# EAGLE library part TEMPLATE_PHOTON (library voltera_community_lib)
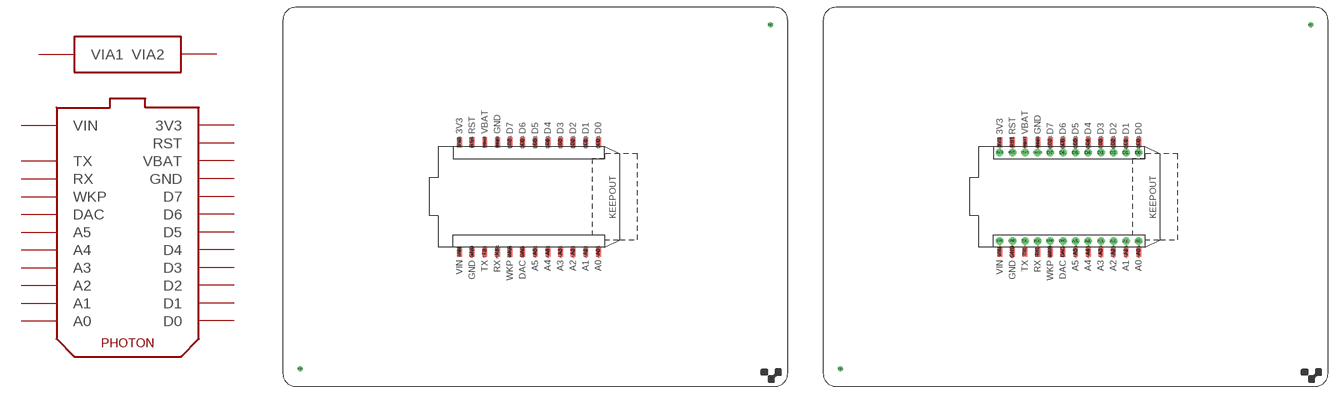
[diagram p3: symbol with the pads of PHOTON; footprints PHOTON, PHOTON_RAW]

Designator prefix -

## TEMPLATE_PHOTON_SHIELD  [PHOTON]
3V3  3V3
3V3@1  3V3
A0  A0
A0@1  A0
A1  A1
A1@1  A1
A2  A2
A2@1  A2
A3  A3
A3@1  A3
A4  A4
A4@1  A4
A5  A5
A5@1  A5
D0  D0
D0@1  D0
D1  D1
D1@1  D1
D2  D2
D2@1  D2
D3  D3
D3@1  D3
D4  D4
D4@1  D4
D5  D5
D5@1  D5
D6  D6
D6@1  D6
D7  D7
D7@1  D7
DAC  DAC
DAC@1  DAC
GND  GND
GND@1  GND
GND@2  GND
GND@3  GND
P$1  VIA1
P$2  VIA2
RST  RST
RST@1  RST
RX  RX
RX@1  RX
TX  TX
TX@1  TX
VBAT  VBAT
VBAT@1  VBAT
VIN  VIN
VIN@1  VIN
WKP  WKP
WKP@1  WKP

## TEMPLATE_PHOTON_RAW  [PHOTON_RAW]
3V3  3V3
3V3.  3V3
3V31  3V3
A0  A0
A0.  A0
A0@1  A0
A1  A1
A1.  A1
A1@1  A1
A2  A2
A2.  A2
A2@1  A2
A3  A3
A3.  A3
A3@1  A3
A4  A4
A4.  A4
A4@1  A4
A5  A5
A5.  A5
A5@1  A5
D0  D0
D0.  D0
D0@1  D0
D1  D1
D1.  D1
D1@1  D1
D2  D2
D2.  D2
D2@1  D2
D3  D3
D3.  D3
D3@1  D3
D4  D4
D4.  D4
D4@1  D4
D5  D5
D5.  D5
D5@1  D5
D6  D6
D6.  D6
D6@1  D6
D7  D7
D7.  D7
D7@1  D7
DAC  DAC
DAC1  DAC
DAC.  DAC
GND  GND
GND1  GND
GND.  GND
GND.@1  GND
GND@1  GND
GND@2  GND
P$1  VIA1
P$2  VIA2
RST  RST
RST1  RST
RST.  RST
RX  RX
RX1  RX
RX.  RX
TX  TX
TX1  TX
TX.  TX
VBAT  VBAT
VBAT1  VBAT
VBAT.  VBAT
VIN  VIN
VIN1  VIN
VIN.  VIN
WKP  WKP
WKP1  WKP
WKP.  WKP

## Footprint PHOTON (pad centres in mm)
smd 1 x 2 bottom: 3V3 35.56,49.13; A0 63.5,27.07; A1 60.96,27.07; A2 58.42,27.07; A3 55.88,27.07; A4 53.34,27.07; A5 50.8,27.07; D0 63.5,49.13; D1 60.96,49.13; D2 58.42,49.13; D3 55.88,49.13; D4 53.34,49.13; D5 50.8,49.13; D6 48.26,49.13; D7 45.72,49.13; DAC 48.26,27.07; GND 38.1,27.07; GND@1 43.18,49.13; RST 38.1,49.13; RX 43.18,27.07; TX 40.64,27.07; VBAT 40.64,49.13; VIN 35.56,27.07; WKP 45.72,27.07
smd 1 x 2: 3V3@1 35.56,49.13; A0@1 63.5,27.07; A1@1 60.96,27.07; A2@1 58.42,27.07; A3@1 55.88,27.07; A4@1 53.34,27.07; A5@1 50.8,27.07; D0@1 63.5,49.13; D1@1 60.96,49.13; D2@1 58.42,49.13; D3@1 55.88,49.13; D4@1 53.34,49.13; D5@1 50.8,49.13; D6@1 48.26,49.13; D7@1 45.72,49.13; DAC@1 48.26,27.07; GND@2 43.18,49.13; GND@3 38.1,27.07; RST@1 38.1,49.13; RX@1 43.18,27.07; TX@1 40.64,27.07; VBAT@1 40.64,49.13; VIN@1 35.56,27.07; WKP@1 45.72,27.07
drill 0.3 pad 1: P$1 3.5,3.5; P$2 98.1,72.7

## Footprint PHOTON_RAW (pad centres in mm)
smd 1 x 2 bottom: 3V3 35.56,49.13; A0 63.5,27.07; A1 60.96,27.07; A2 58.42,27.07; A3 55.88,27.07; A4 53.34,27.07; A5 50.8,27.07; D0 63.5,49.13; D1 60.96,49.13; D2 58.42,49.13; D3 55.88,49.13; D4 53.34,49.13; D5 50.8,49.13; D6 48.26,49.13; D7 45.72,49.13; DAC 48.26,27.07; GND 38.1,27.07; GND@1 43.18,49.13; RST 38.1,49.13; RX 43.18,27.07; TX 40.64,27.07; VBAT 40.64,49.13; VIN 35.56,27.07; WKP 45.72,27.07
drill 1: 3V3. 35.56,46.99; A0. 63.5,29.21; A1. 60.96,29.21; A2. 58.42,29.21; A3. 55.88,29.21; A4. 53.34,29.21; A5. 50.8,29.21; D0. 63.5,46.99; D1. 60.96,46.99; D2. 58.42,46.99; D3. 55.88,46.99; D4. 53.34,46.99; D5. 50.8,46.99; D6. 48.26,46.99; D7. 45.72,46.99; DAC. 48.26,29.21; GND. 38.1,29.21; GND.@1 43.18,46.99; RST. 38.1,46.99; RX. 43.18,29.21; TX. 40.64,29.21; VBAT. 40.64,46.99; VIN. 35.56,29.21; WKP. 45.72,29.21
smd 1 x 2: 3V31 35.56,49.13; A0@1 63.5,27.07; A1@1 60.96,27.07; A2@1 58.42,27.07; A3@1 55.88,27.07; A4@1 53.34,27.07; A5@1 50.8,27.07; D0@1 63.5,49.13; D1@1 60.96,49.13; D2@1 58.42,49.13; D3@1 55.88,49.13; D4@1 53.34,49.13; D5@1 50.8,49.13; D6@1 48.26,49.13; D7@1 45.72,49.13; DAC1 48.26,27.07; GND1 38.1,27.07; GND@2 43.18,49.13; RST1 38.1,49.13; RX1 43.18,27.07; TX1 40.64,27.07; VBAT1 40.64,49.13; VIN1 35.56,27.07; WKP1 45.72,27.07
drill 0.3 pad 1: P$1 3.5,3.5; P$2 98.1,72.7